# Altium integrated library Capacitors - Ceramic - 0201.IntLib: 1723 symbols (part 24 of 38)
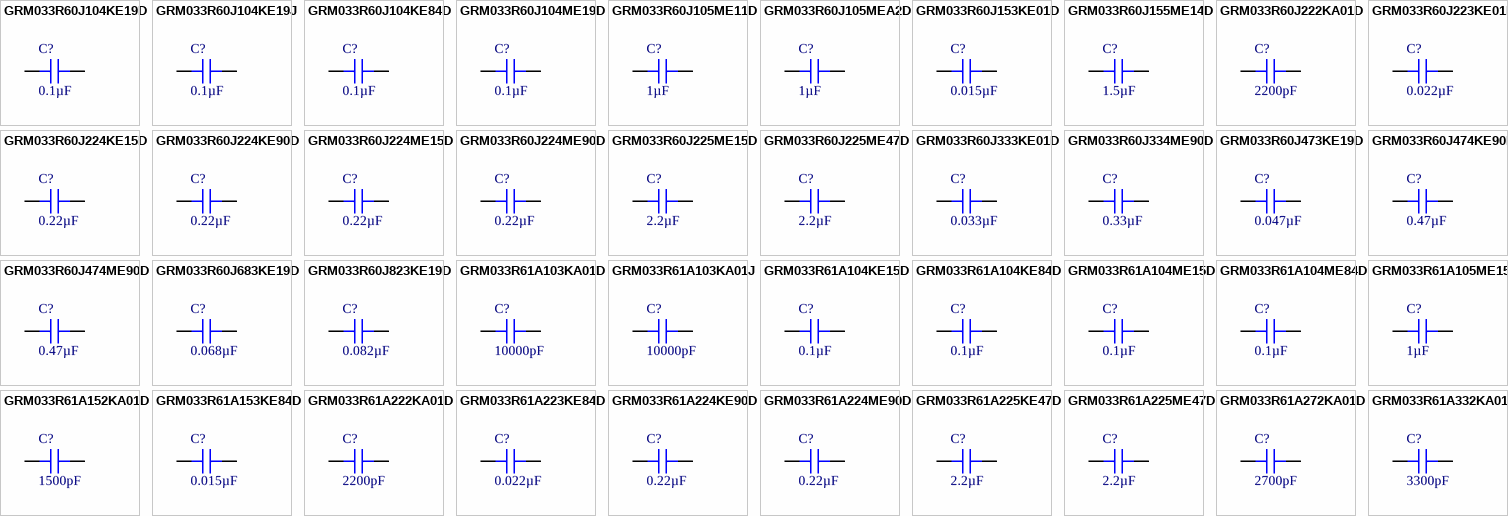
[diagram p66: symbols GRM033R60J104KE19D to GRM033R61A332KA01D]

## GRM033R60J105MEA2D
designator C?, comment 1µF
CAP CER 1UF 6.3V X5R 0201; Part Number: GRM033R60J105MEA2D; Manufacturer: Murata Electronics; Tolerance: ±20%; Value: 1µF; Applications: General Purpose; Capacitance: 1µF; ComponentLink1Description: Datasheet; ComponentLink1URL: https://www.murata.com/~/media/webrenewal/support/library/catalog/products/capacitor/mlcc/c02e.ashx?la=en-us; ComponentLink2Description: DigiKey Link; ComponentLink2URL: http://digikey.com/product-detail/en/murata-electronics/GRM033R60J105MEA2D/490-7229-1-ND/4213268; Device Package: 0201 (0603 Metric); LastUpdated: 9/2/2020 12:58:32 AM; Lifecycle Status: Active; Minimum Order: 1; Mounting Type: Surface Mount, MLCC; Operating Temperature: -55°C ~ 85°C; Package / Case: 0201 (0603 Metric); Packaging: TapeAndReel; PartId: 1258; Part Status: Active; Price: 0.01; Series: GRM; Size / Dimension: 0.024" L x 0.012" W (0.60mm x 0.30mm); Supplier 1: DigiKey; Supplier Part Number 1: 490-7229-1-ND; Temperature Coefficient: X5R; Thickness (Max): 0.013" (0.33mm); Voltage - Rated: 6.3V
footprint CAP 0201_0603
pins: 1, 2

## GRM033R60J153KE01D
designator C?, comment 0.015µF
CAP CER 0.015UF 6.3V X5R 0201; Part Number: GRM033R60J153KE01D; Manufacturer: Murata Electronics; Tolerance: ±10%; Value: 0.015µF; Applications: General Purpose; Capacitance: 0.015µF; ComponentLink1Description: Datasheet; ComponentLink1URL: https://www.murata.com/~/media/webrenewal/support/library/catalog/products/capacitor/mlcc/c02e.ashx?la=en-us; ComponentLink2Description: DigiKey Link; ComponentLink2URL: http://digikey.com/product-detail/en/murata-electronics/GRM033R60J153KE01D/490-3168-1-ND/702709; Device Package: 0201 (0603 Metric); LastUpdated: 9/2/2020 12:59:16 AM; Lifecycle Status: Active; Minimum Order: 1; Mounting Type: Surface Mount, MLCC; Operating Temperature: -55°C ~ 85°C; Package / Case: 0201 (0603 Metric); Packaging: TapeAndReel; PartId: 742; Part Status: Active; Price: 0.01; Series: GRM; Size / Dimension: 0.024" L x 0.012" W (0.60mm x 0.30mm); Supplier 1: DigiKey; Supplier Part Number 1: 490-3168-1-ND; Temperature Coefficient: X5R; Thickness (Max): 0.013" (0.33mm); Voltage - Rated: 6.3V
footprint CAP 0201_0603
pins: 1, 2

## GRM033R60J155ME14D
designator C?, comment 1.5µF
CAP CER 1.5UF 6.3V X5R 0201; Part Number: GRM033R60J155ME14D; Manufacturer: Murata Electronics; Tolerance: ±20%; Value: 1.5µF; Applications: General Purpose; Capacitance: 1.5µF; ComponentLink1Description: Datasheet; ComponentLink1URL: https://www.murata.com/~/media/webrenewal/support/library/catalog/products/capacitor/mlcc/c02e.ashx?la=en-us; ComponentLink2Description: DigiKey Link; ComponentLink2URL: http://digikey.com/product-detail/en/murata-electronics/GRM033R60J155ME14D/490-13223-1-ND/5877431; Device Package: 0201 (0603 Metric); LastUpdated: 9/2/2020 12:58:04 AM; Lifecycle Status: Active; Minimum Order: 1; Mounting Type: Surface Mount, MLCC; Operating Temperature: -55°C ~ 85°C; Package / Case: 0201 (0603 Metric); Packaging: TapeAndReel; PartId: 1561; Part Status: Active; Price: 0.05; Series: GRM; Size / Dimension: 0.024" L x 0.012" W (0.60mm x 0.30mm); Supplier 1: DigiKey; Supplier Part Number 1: 490-13223-1-ND; Temperature Coefficient: X5R; Thickness (Max): 0.013" (0.33mm); Voltage - Rated: 6.3V
footprint CAP 0201_0603
pins: 1, 2

## GRM033R60J222KA01D
designator C?, comment 2200pF
CAP CER 2200PF 6.3V X5R 0201; Part Number: GRM033R60J222KA01D; Manufacturer: Murata Electronics; Tolerance: ±10%; Value: 2200pF; Applications: General Purpose; Capacitance: 2200pF; ComponentLink1Description: Datasheet; ComponentLink1URL: https://search.murata.co.jp/Ceramy/image/img/A01X/G101/ENG/GRM033R60J222KA01-01.pdf; ComponentLink2Description: DigiKey Link; ComponentLink2URL: http://digikey.com/product-detail/en/murata-electronics/GRM033R60J222KA01D/490-17067-1-ND/7602066; Device Package: 0201 (0603 Metric); LastUpdated: 9/2/2020 1:00:13 AM; Lifecycle Status: Active; Minimum Order: 1; Mounting Type: Surface Mount, MLCC; Operating Temperature: -55°C ~ 85°C; Package / Case: 0201 (0603 Metric); Packaging: CutTape; PartId: 73; Part Status: Active; Price: 0.10; Series: GRM; Size / Dimension: 0.024" L x 0.012" W (0.60mm x 0.30mm); Supplier 1: DigiKey; Supplier Part Number 1: 490-17067-1-ND; Temperature Coefficient: X5R; Thickness (Max): 0.013" (0.33mm); Voltage - Rated: 6.3V
footprint CAP 0201_0603
pins: 1, 2

## GRM033R60J223KE01D
designator C?, comment 0.022µF
CAP CER 0.022UF 6.3V X5R 0201; Part Number: GRM033R60J223KE01D; Manufacturer: Murata Electronics; Tolerance: ±10%; Value: 0.022µF; Applications: General Purpose; Capacitance: 0.022µF; ComponentLink1Description: Datasheet; ComponentLink1URL: https://www.murata.com/~/media/webrenewal/support/library/catalog/products/capacitor/mlcc/c02e.ashx?la=en-us; ComponentLink2Description: DigiKey Link; ComponentLink2URL: http://digikey.com/product-detail/en/murata-electronics/GRM033R60J223KE01D/490-3169-1-ND/702710; Device Package: 0201 (0603 Metric); LastUpdated: 9/2/2020 12:59:16 AM; Lifecycle Status: Active; Minimum Order: 1; Mounting Type: Surface Mount, MLCC; Operating Temperature: -55°C ~ 85°C; Package / Case: 0201 (0603 Metric); Packaging: TapeAndReel; PartId: 739; Part Status: Active; Price: 0.01; Series: GRM; Size / Dimension: 0.024" L x 0.012" W (0.60mm x 0.30mm); Supplier 1: DigiKey; Supplier Part Number 1: 490-3169-1-ND; Temperature Coefficient: X5R; Thickness (Max): 0.013" (0.33mm); Voltage - Rated: 6.3V
footprint CAP 0201_0603
pins: 1, 2

## GRM033R60J224KE15D
designator C?, comment 0.22µF
CAP CER 0.22UF 6.3V X5R 0201; Part Number: GRM033R60J224KE15D; Manufacturer: Murata Electronics; Tolerance: ±10%; Value: 0.22µF; Applications: General Purpose; Capacitance: 0.22µF; ComponentLink1Description: Datasheet; ComponentLink1URL: https://search.murata.co.jp/Ceramy/image/img/A01X/G101/ENG/GRM033R60J224KE15-02.pdf; ComponentLink2Description: DigiKey Link; ComponentLink2URL: http://digikey.com/product-detail/en/murata-electronics/GRM033R60J224KE15D/490-10406-1-ND/5026283; Device Package: 0201 (0603 Metric); LastUpdated: 9/2/2020 12:59:46 AM; Lifecycle Status: Active; Minimum Order: 1; Mounting Type: Surface Mount, MLCC; Operating Temperature: -55°C ~ 85°C; Package / Case: 0201 (0603 Metric); Packaging: TapeAndReel; PartId: 389; Part Status: Active; Price: 0.01; Series: GRM; Size / Dimension: 0.024" L x 0.012" W (0.60mm x 0.30mm); Supplier 1: DigiKey; Supplier Part Number 1: 490-10406-1-ND; Temperature Coefficient: X5R; Thickness (Max): 0.013" (0.33mm); Voltage - Rated: 6.3V
footprint CAP 0201_0603
pins: 1, 2

## GRM033R60J224KE90D
designator C?, comment 0.22µF
CAP CER 0.22UF 6.3V X5R 0201; Part Number: GRM033R60J224KE90D; Manufacturer: Murata Electronics; Tolerance: ±10%; Value: 0.22µF; Applications: General Purpose; Capacitance: 0.22µF; ComponentLink1Description: Datasheet; ComponentLink1URL: https://www.murata.com/~/media/webrenewal/support/library/catalog/products/capacitor/mlcc/c02e.ashx?la=en-us; ComponentLink2Description: DigiKey Link; ComponentLink2URL: http://digikey.com/product-detail/en/murata-electronics/GRM033R60J224KE90D/490-17070-1-ND/7602069; Device Package: 0201 (0603 Metric); LastUpdated: 9/2/2020 12:57:58 AM; Lifecycle Status: Active; Minimum Order: 1; Mounting Type: Surface Mount, MLCC; Operating Temperature: -55°C ~ 85°C; Package / Case: 0201 (0603 Metric); Packaging: TapeAndReel; PartId: 1633; Part Status: Active; Price: 0.01; Series: GRM; Size / Dimension: 0.024" L x 0.012" W (0.60mm x 0.30mm); Supplier 1: DigiKey; Supplier Part Number 1: 490-17070-1-ND; Temperature Coefficient: X5R; Thickness (Max): 0.013" (0.33mm); Voltage - Rated: 6.3V
footprint CAP 0201_0603
pins: 1, 2

## GRM033R60J224ME15D
designator C?, comment 0.22µF
CAP CER 0.22UF 6.3V X5R 0201; Part Number: GRM033R60J224ME15D; Manufacturer: Murata Electronics; Tolerance: ±20%; Value: 0.22µF; Applications: General Purpose; Capacitance: 0.22µF; ComponentLink1Description: Datasheet; ComponentLink1URL: https://search.murata.co.jp/Ceramy/image/img/A01X/G101/ENG/GRM033R60J224ME15-01.pdf; ComponentLink2Description: DigiKey Link; ComponentLink2URL: http://digikey.com/product-detail/en/murata-electronics/GRM033R60J224ME15D/490-10407-1-ND/5026284; Device Package: 0201 (0603 Metric); LastUpdated: 9/2/2020 12:59:46 AM; Lifecycle Status: Active; Minimum Order: 1; Mounting Type: Surface Mount, MLCC; Operating Temperature: -55°C ~ 85°C; Package / Case: 0201 (0603 Metric); Packaging: CutTape; PartId: 390; Part Status: Active; Price: 0.10; Series: GRM; Size / Dimension: 0.024" L x 0.012" W (0.60mm x 0.30mm); Supplier 1: DigiKey; Supplier Part Number 1: 490-10407-1-ND; Temperature Coefficient: X5R; Thickness (Max): 0.013" (0.33mm); Voltage - Rated: 6.3V
footprint CAP 0201_0603
pins: 1, 2

## GRM033R60J224ME90D
designator C?, comment 0.22µF
CAP CER 0.22UF 6.3V X5R 0201; Part Number: GRM033R60J224ME90D; Manufacturer: Murata Electronics; Tolerance: ±20%; Value: 0.22µF; Applications: General Purpose; Capacitance: 0.22µF; ComponentLink1Description: Datasheet; ComponentLink1URL: https://search.murata.co.jp/Ceramy/image/img/A01X/G101/ENG/GRM033R60J224ME90-01.pdf; ComponentLink2Description: DigiKey Link; ComponentLink2URL: http://digikey.com/product-detail/en/murata-electronics/GRM033R60J224ME90D/490-11973-1-ND/5403174; Device Package: 0201 (0603 Metric); LastUpdated: 9/2/2020 12:58:16 AM; Lifecycle Status: Active; Minimum Order: 1; Mounting Type: Surface Mount, MLCC; Operating Temperature: -55°C ~ 85°C; Package / Case: 0201 (0603 Metric); Packaging: TapeAndReel; PartId: 1427; Part Status: Active; Price: 0.01; Series: GRM; Size / Dimension: 0.024" L x 0.012" W (0.60mm x 0.30mm); Supplier 1: DigiKey; Supplier Part Number 1: 490-11973-1-ND; Temperature Coefficient: X5R; Thickness (Max): 0.013" (0.33mm); Voltage - Rated: 6.3V
footprint CAP 0201_0603
pins: 1, 2

## GRM033R60J225ME15D
designator C?, comment 2.2µF
CAP CER 2.2UF 6.3V X5R 0201; Part Number: GRM033R60J225ME15D; Manufacturer: Murata Electronics; Tolerance: ±20%; Value: 2.2µF; Applications: General Purpose; Capacitance: 2.2µF; ComponentLink1Description: Datasheet; ComponentLink1URL: https://www.murata.com/~/media/webrenewal/support/library/catalog/products/capacitor/mlcc/c02e.ashx?la=en-us; ComponentLink2Description: DigiKey Link; ComponentLink2URL: http://digikey.com/product-detail/en/murata-electronics/GRM033R60J225ME15D/490-13224-1-ND/5877432; Device Package: 0201 (0603 Metric); LastUpdated: 9/2/2020 12:59:44 AM; Lifecycle Status: Active; Minimum Order: 1; Mounting Type: Surface Mount, MLCC; Operating Temperature: -55°C ~ 85°C; Package / Case: 0201 (0603 Metric); Packaging: TapeAndReel; PartId: 411; Part Status: Active; Price: 0.04; Series: GRM; Size / Dimension: 0.024" L x 0.012" W (0.60mm x 0.30mm); Supplier 1: DigiKey; Supplier Part Number 1: 490-13224-1-ND; Temperature Coefficient: X5R; Thickness (Max): 0.014" (0.35mm); Voltage - Rated: 6.3V
footprint CAP 0201_0603
pins: 1, 2

## GRM033R60J225ME47D
designator C?, comment 2.2µF
CAP CER 2.2UF 6.3V X5R 0201; Part Number: GRM033R60J225ME47D; Manufacturer: Murata Electronics; Tolerance: ±20%; Value: 2.2µF; Applications: General Purpose; Capacitance: 2.2µF; ComponentLink1Description: Datasheet; ComponentLink1URL: https://www.murata.com/~/media/webrenewal/support/library/catalog/products/capacitor/mlcc/c02e.ashx?la=en-us; ComponentLink2Description: DigiKey Link; ComponentLink2URL: http://digikey.com/product-detail/en/murata-electronics/GRM033R60J225ME47D/490-13225-1-ND/5877433; Device Package: 0201 (0603 Metric); LastUpdated: 9/2/2020 12:58:25 AM; Lifecycle Status: Active; Minimum Order: 1; Mounting Type: Surface Mount, MLCC; Operating Temperature: -55°C ~ 85°C; Package / Case: 0201 (0603 Metric); Packaging: TapeAndReel; PartId: 1333; Part Status: Active; Price: 0.03; Series: GRM; Size / Dimension: 0.024" L x 0.012" W (0.60mm x 0.30mm); Supplier 1: DigiKey; Supplier Part Number 1: 490-13225-1-ND; Temperature Coefficient: X5R; Thickness (Max): 0.015" (0.39mm); Voltage - Rated: 6.3V
footprint CAP 0201_0603
pins: 1, 2

## GRM033R60J333KE01D
designator C?, comment 0.033µF
CAP CER 0.033UF 6.3V X5R 0201; Part Number: GRM033R60J333KE01D; Manufacturer: Murata Electronics; Tolerance: ±10%; Value: 0.033µF; Applications: General Purpose; Capacitance: 0.033µF; ComponentLink1Description: Datasheet; ComponentLink1URL: https://www.murata.com/~/media/webrenewal/support/library/catalog/products/capacitor/mlcc/c02e.ashx?la=en-us; ComponentLink2Description: DigiKey Link; ComponentLink2URL: http://digikey.com/product-detail/en/murata-electronics/GRM033R60J333KE01D/490-3170-1-ND/702711; Device Package: 0201 (0603 Metric); LastUpdated: 9/2/2020 12:59:16 AM; Lifecycle Status: Active; Minimum Order: 1; Mounting Type: Surface Mount, MLCC; Operating Temperature: -55°C ~ 85°C; Package / Case: 0201 (0603 Metric); Packaging: TapeAndReel; PartId: 740; Part Status: Active; Price: 0.01; Series: GRM; Size / Dimension: 0.024" L x 0.012" W (0.60mm x 0.30mm); Supplier 1: DigiKey; Supplier Part Number 1: 490-3170-1-ND; Temperature Coefficient: X5R; Thickness (Max): 0.013" (0.33mm); Voltage - Rated: 6.3V
footprint CAP 0201_0603
pins: 1, 2

## GRM033R60J334ME90D
designator C?, comment 0.33µF
CAP CER 0.33UF 6.3V X5R 0201; Part Number: GRM033R60J334ME90D; Manufacturer: Murata Electronics; Tolerance: ±20%; Value: 0.33µF; Applications: General Purpose; Capacitance: 0.33µF; ComponentLink1Description: Datasheet; ComponentLink1URL: https://search.murata.co.jp/Ceramy/image/img/A01X/G101/ENG/GRM033R60J334ME90-01.pdf; ComponentLink2Description: DigiKey Link; ComponentLink2URL: http://digikey.com/product-detail/en/murata-electronics/GRM033R60J334ME90D/490-10408-1-ND/5026285; Device Package: 0201 (0603 Metric); LastUpdated: 9/2/2020 12:58:46 AM; Lifecycle Status: Active; Minimum Order: 1; Mounting Type: Surface Mount, MLCC; Operating Temperature: -55°C ~ 85°C; Package / Case: 0201 (0603 Metric); Packaging: TapeAndReel; PartId: 1094; Part Status: Active; Price: 0.02; Series: GRM; Size / Dimension: 0.024" L x 0.012" W (0.60mm x 0.30mm); Supplier 1: DigiKey; Supplier Part Number 1: 490-10408-1-ND; Temperature Coefficient: X5R; Thickness (Max): 0.013" (0.33mm); Voltage - Rated: 6.3V
footprint CAP 0201_0603
pins: 1, 2

## GRM033R60J473KE19D
designator C?, comment 0.047µF
CAP CER 0.047UF 6.3V X5R 0201; Part Number: GRM033R60J473KE19D; Manufacturer: Murata Electronics; Tolerance: ±10%; Value: 0.047µF; Applications: General Purpose; Capacitance: 0.047µF; ComponentLink1Description: Datasheet; ComponentLink1URL: https://www.murata.com/~/media/webrenewal/support/library/catalog/products/capacitor/mlcc/c02e.ashx?la=en-us; ComponentLink2Description: DigiKey Link; ComponentLink2URL: http://digikey.com/product-detail/en/murata-electronics/GRM033R60J473KE19D/490-6140-1-ND/3845340; Device Package: 0201 (0603 Metric); LastUpdated: 9/2/2020 12:59:16 AM; Lifecycle Status: Active; Minimum Order: 1; Mounting Type: Surface Mount, MLCC; Operating Temperature: -55°C ~ 85°C; Package / Case: 0201 (0603 Metric); Packaging: TapeAndReel; PartId: 741; Part Status: Active; Price: 0.01; Series: GRM; Size / Dimension: 0.024" L x 0.012" W (0.60mm x 0.30mm); Supplier 1: DigiKey; Supplier Part Number 1: 490-6140-1-ND; Temperature Coefficient: X5R; Thickness (Max): 0.013" (0.33mm); Voltage - Rated: 6.3V
footprint CAP 0201_0603
pins: 1, 2

## GRM033R60J474KE90D
designator C?, comment 0.47µF
CAP CER 0.47UF 6.3V X5R 0201; Part Number: GRM033R60J474KE90D; Manufacturer: Murata Electronics; Tolerance: ±10%; Value: 0.47µF; Applications: General Purpose; Capacitance: 0.47µF; ComponentLink1Description: Datasheet; ComponentLink1URL: https://search.murata.co.jp/Ceramy/image/img/A01X/G101/ENG/GRM033R60J474KE90-01.pdf; ComponentLink2Description: DigiKey Link; ComponentLink2URL: http://digikey.com/product-detail/en/murata-electronics/GRM033R60J474KE90D/490-10409-1-ND/5026286; Device Package: 0201 (0603 Metric); LastUpdated: 9/2/2020 12:58:46 AM; Lifecycle Status: Active; Minimum Order: 1; Mounting Type: Surface Mount, MLCC; Operating Temperature: -55°C ~ 85°C; Package / Case: 0201 (0603 Metric); Packaging: TapeAndReel; PartId: 1093; Part Status: Active; Price: 0.02; Series: GRM; Size / Dimension: 0.024" L x 0.012" W (0.60mm x 0.30mm); Supplier 1: DigiKey; Supplier Part Number 1: 490-10409-1-ND; Temperature Coefficient: X5R; Thickness (Max): 0.013" (0.33mm); Voltage - Rated: 6.3V
footprint CAP 0201_0603
pins: 1, 2

## GRM033R60J474ME90D
designator C?, comment 0.47µF
CAP CER 0.47UF 6.3V X5R 0201; Part Number: GRM033R60J474ME90D; Manufacturer: Murata Electronics; Tolerance: ±20%; Value: 0.47µF; Applications: General Purpose; Capacitance: 0.47µF; ComponentLink1Description: Datasheet; ComponentLink1URL: https://search.murata.co.jp/Ceramy/image/img/A01X/G101/ENG/GRM033R60J474ME90-01.pdf; ComponentLink2Description: DigiKey Link; ComponentLink2URL: http://digikey.com/product-detail/en/murata-electronics/GRM033R60J474ME90D/490-10410-1-ND/5026287; Device Package: 0201 (0603 Metric); LastUpdated: 9/2/2020 12:59:19 AM; Lifecycle Status: Active; Minimum Order: 1; Mounting Type: Surface Mount, MLCC; Operating Temperature: -55°C ~ 85°C; Package / Case: 0201 (0603 Metric); Packaging: TapeAndReel; PartId: 705; Part Status: Active; Price: 0.02; Series: GRM; Size / Dimension: 0.024" L x 0.012" W (0.60mm x 0.30mm); Supplier 1: DigiKey; Supplier Part Number 1: 490-10410-1-ND; Temperature Coefficient: X5R; Thickness (Max): 0.013" (0.33mm); Voltage - Rated: 6.3V
footprint CAP 0201_0603
pins: 1, 2

## GRM033R60J683KE19D
designator C?, comment 0.068µF
CAP CER 0.068UF 6.3V X5R 0201; Part Number: GRM033R60J683KE19D; Manufacturer: Murata Electronics; Tolerance: ±10%; Value: 0.068µF; Applications: General Purpose; Capacitance: 0.068µF; ComponentLink1Description: Datasheet; ComponentLink1URL: https://www.murata.com/~/media/webrenewal/support/library/catalog/products/capacitor/mlcc/c02e.ashx?la=en-us; ComponentLink2Description: DigiKey Link; ComponentLink2URL: http://digikey.com/product-detail/en/murata-electronics/GRM033R60J683KE19D/490-3171-1-ND/702712; Device Package: 0201 (0603 Metric); LastUpdated: 9/2/2020 12:57:56 AM; Lifecycle Status: Active; Minimum Order: 1; Mounting Type: Surface Mount, MLCC; Operating Temperature: -55°C ~ 85°C; Package / Case: 0201 (0603 Metric); Packaging: TapeAndReel; PartId: 1649; Part Status: Active; Price: 0.01; Series: GRM; Size / Dimension: 0.024" L x 0.012" W (0.60mm x 0.30mm); Supplier 1: DigiKey; Supplier Part Number 1: 490-3171-1-ND; Temperature Coefficient: X5R; Thickness (Max): 0.013" (0.33mm); Voltage - Rated: 6.3V
footprint CAP 0201_0603
pins: 1, 2

## GRM033R60J823KE19D
designator C?, comment 0.082µF
CAP CER 0.082UF 6.3V X5R 0201; Part Number: GRM033R60J823KE19D; Manufacturer: Murata Electronics; Tolerance: ±10%; Value: 0.082µF; Applications: General Purpose; Capacitance: 0.082µF; ComponentLink1Description: Datasheet; ComponentLink1URL: https://www.murata.com/~/media/webrenewal/support/library/catalog/products/capacitor/mlcc/c02e.ashx?la=en-us; ComponentLink2Description: DigiKey Link; ComponentLink2URL: http://digikey.com/product-detail/en/murata-electronics/GRM033R60J823KE19D/490-11353-1-ND/5333193; Device Package: 0201 (0603 Metric); LastUpdated: 9/2/2020 1:00:14 AM; Lifecycle Status: Active; Minimum Order: 1; Mounting Type: Surface Mount, MLCC; Operating Temperature: -55°C ~ 85°C; Package / Case: 0201 (0603 Metric); Packaging: TapeAndReel; PartId: 60; Part Status: Active; Price: 0.01; Series: GRM; Size / Dimension: 0.024" L x 0.012" W (0.60mm x 0.30mm); Supplier 1: DigiKey; Supplier Part Number 1: 490-11353-1-ND; Temperature Coefficient: X5R; Thickness (Max): 0.013" (0.33mm); Voltage - Rated: 6.3V
footprint CAP 0201_0603
pins: 1, 2

## GRM033R61A103KA01D
designator C?, comment 10000pF
CAP CER 10000PF 10V X5R 0201; Part Number: GRM033R61A103KA01D; Manufacturer: Murata Electronics; Tolerance: ±10%; Value: 10000pF; Applications: General Purpose; Capacitance: 10000pF; ComponentLink1Description: Datasheet; ComponentLink1URL: https://www.murata.com/~/media/webrenewal/support/library/catalog/products/capacitor/mlcc/c02e.ashx?la=en-us; ComponentLink2Description: DigiKey Link; ComponentLink2URL: http://digikey.com/product-detail/en/murata-electronics/GRM033R61A103KA01D/490-3166-1-ND/702707; Device Package: 0201 (0603 Metric); LastUpdated: 9/2/2020 12:59:28 AM; Lifecycle Status: Active; Minimum Order: 1; Mounting Type: Surface Mount, MLCC; Operating Temperature: -55°C ~ 85°C; Package / Case: 0201 (0603 Metric); Packaging: CutTape; PartId: 601; Part Status: Active; Price: 0.10; Series: GRM; Size / Dimension: 0.024" L x 0.012" W (0.60mm x 0.30mm); Supplier 1: DigiKey; Supplier Part Number 1: 490-3166-1-ND; Temperature Coefficient: X5R; Thickness (Max): 0.013" (0.33mm); Voltage - Rated: 10V
footprint CAP 0201_0603
pins: 1, 2

## GRM033R61A103KA01J
designator C?, comment 10000pF
CAP CER 10000PF 10V X5R 0201; Part Number: GRM033R61A103KA01J; Manufacturer: Murata Electronics; Tolerance: ±10%; Value: 10000pF; Applications: General Purpose; Capacitance: 10000pF; ComponentLink1Description: Datasheet; ComponentLink1URL: https://www.murata.com/~/media/webrenewal/support/library/catalog/products/capacitor/mlcc/c02e.ashx?la=en-us; ComponentLink2Description: DigiKey Link; ComponentLink2URL: http://digikey.com/product-detail/en/murata-electronics/GRM033R61A103KA01J/490-8156-1-ND/4380449; Device Package: 0201 (0603 Metric); LastUpdated: 9/2/2020 12:59:31 AM; Lifecycle Status: Active; Minimum Order: 1; Mounting Type: Surface Mount, MLCC; Operating Temperature: -55°C ~ 85°C; Package / Case: 0201 (0603 Metric); Packaging: CutTape; PartId: 566; Part Status: Active; Price: 0.10; Series: GRM; Size / Dimension: 0.024" L x 0.012" W (0.60mm x 0.30mm); Supplier 1: DigiKey; Supplier Part Number 1: 490-8156-1-ND; Temperature Coefficient: X5R; Thickness (Max): 0.013" (0.33mm); Voltage - Rated: 10V
footprint CAP 0201_0603
pins: 1, 2

## GRM033R61A104KE15D
designator C?, comment 0.1µF
CAP CER 0.1UF 10V X5R 0201; Part Number: GRM033R61A104KE15D; Manufacturer: Murata Electronics; Tolerance: ±10%; Value: 0.1µF; Applications: General Purpose; Capacitance: 0.1µF; ComponentLink1Description: Datasheet; ComponentLink1URL: https://www.murata.com/~/media/webrenewal/support/library/catalog/products/capacitor/mlcc/c02e.ashx?la=en-us; ComponentLink2Description: DigiKey Link; ComponentLink2URL: http://digikey.com/product-detail/en/murata-electronics/GRM033R61A104KE15D/490-5881-1-ND/2674192; Device Package: 0201 (0603 Metric); LastUpdated: 9/2/2020 12:57:57 AM; Lifecycle Status: Active; Minimum Order: 1; Mounting Type: Surface Mount, MLCC; Operating Temperature: -55°C ~ 85°C; Package / Case: 0201 (0603 Metric); Packaging: CutTape; PartId: 1641; Part Status: Active; Price: 0.10; Series: GRM; Size / Dimension: 0.024" L x 0.012" W (0.60mm x 0.30mm); Supplier 1: DigiKey; Supplier Part Number 1: 490-5881-1-ND; Temperature Coefficient: X5R; Thickness (Max): 0.013" (0.33mm); Voltage - Rated: 10V
footprint CAP 0201_0603
pins: 1, 2

## GRM033R61A104KE84D
designator C?, comment 0.1µF
CAP CER 0.1UF 10V X5R 0201; Part Number: GRM033R61A104KE84D; Manufacturer: Murata Electronics; Tolerance: ±10%; Value: 0.1µF; Applications: General Purpose; Capacitance: 0.1µF; ComponentLink1Description: Datasheet; ComponentLink1URL: https://search.murata.co.jp/Ceramy/image/img/A01X/G101/ENG/GRM033R61A104KE84-01.pdf; ComponentLink2Description: DigiKey Link; ComponentLink2URL: http://digikey.com/product-detail/en/murata-electronics/GRM033R61A104KE84D/490-10681-1-ND/5251424; Device Package: 0201 (0603 Metric); LastUpdated: 9/2/2020 1:00:17 AM; Lifecycle Status: Active; Minimum Order: 1; Mounting Type: Surface Mount, MLCC; Operating Temperature: -55°C ~ 85°C; Package / Case: 0201 (0603 Metric); Packaging: TapeAndReel; PartId: 27; Part Status: Active; Price: 0.01; Series: GRM; Size / Dimension: 0.024" L x 0.012" W (0.60mm x 0.30mm); Supplier 1: DigiKey; Supplier Part Number 1: 490-10681-1-ND; Temperature Coefficient: X5R; Thickness (Max): 0.013" (0.33mm); Voltage - Rated: 10V
footprint CAP 0201_0603
pins: 1, 2

## GRM033R61A104ME15D
designator C?, comment 0.1µF
CAP CER 0.1UF 10V X5R 0201; Part Number: GRM033R61A104ME15D; Manufacturer: Murata Electronics; Tolerance: ±20%; Value: 0.1µF; Applications: General Purpose; Capacitance: 0.1µF; ComponentLink1Description: Datasheet; ComponentLink1URL: https://www.murata.com/~/media/webrenewal/support/library/catalog/products/capacitor/mlcc/c02e.ashx?la=en-us; ComponentLink2Description: DigiKey Link; ComponentLink2URL: http://digikey.com/product-detail/en/murata-electronics/GRM033R61A104ME15D/490-5405-1-ND/2175212; Device Package: 0201 (0603 Metric); LastUpdated: 9/2/2020 12:58:57 AM; Lifecycle Status: Active; Minimum Order: 1; Mounting Type: Surface Mount, MLCC; Operating Temperature: -55°C ~ 85°C; Package / Case: 0201 (0603 Metric); Packaging: CutTape; PartId: 955; Part Status: Active; Price: 0.10; Series: GRM; Size / Dimension: 0.024" L x 0.012" W (0.60mm x 0.30mm); Supplier 1: DigiKey; Supplier Part Number 1: 490-5405-1-ND; Temperature Coefficient: X5R; Thickness (Max): 0.013" (0.33mm); Voltage - Rated: 10V
footprint CAP 0201_0603
pins: 1, 2

## GRM033R61A104ME84D
designator C?, comment 0.1µF
CAP CER 0.1UF 10V X5R 0201; Part Number: GRM033R61A104ME84D; Manufacturer: Murata Electronics; Tolerance: ±20%; Value: 0.1µF; Applications: General Purpose; Capacitance: 0.1µF; ComponentLink1Description: Datasheet; ComponentLink1URL: https://search.murata.co.jp/Ceramy/image/img/A01X/G101/ENG/GRM033R61A104ME84-01.pdf; ComponentLink2Description: DigiKey Link; ComponentLink2URL: http://digikey.com/product-detail/en/murata-electronics/GRM033R61A104ME84D/490-16738-1-ND/7595646; Device Package: 0201 (0603 Metric); LastUpdated: 9/2/2020 12:59:14 AM; Lifecycle Status: Active; Minimum Order: 1; Mounting Type: Surface Mount, MLCC; Operating Temperature: -55°C ~ 85°C; Package / Case: 0201 (0603 Metric); Packaging: TapeAndReel; PartId: 761; Part Status: Active; Price: 0.01; Series: GRM; Size / Dimension: 0.024" L x 0.012" W (0.60mm x 0.30mm); Supplier 1: DigiKey; Supplier Part Number 1: 490-16738-1-ND; Temperature Coefficient: X5R; Thickness (Max): 0.013" (0.33mm); Voltage - Rated: 10V
footprint CAP 0201_0603
pins: 1, 2

## GRM033R61A105ME15D
designator C?, comment 1µF
CAP CER 1UF 10V X5R 0201; Part Number: GRM033R61A105ME15D; Manufacturer: Murata Electronics; Tolerance: ±20%; Value: 1µF; Applications: General Purpose; Capacitance: 1µF; ComponentLink1Description: Datasheet; ComponentLink1URL: https://www.murata.com/~/media/webrenewal/support/library/catalog/products/capacitor/mlcc/c02e.ashx?la=en-us; ComponentLink2Description: DigiKey Link; ComponentLink2URL: http://digikey.com/product-detail/en/murata-electronics/GRM033R61A105ME15D/490-13226-1-ND/5877434; Device Package: 0201 (0603 Metric); LastUpdated: 9/2/2020 1:00:12 AM; Lifecycle Status: Active; Minimum Order: 1; Mounting Type: Surface Mount, MLCC; Operating Temperature: -55°C ~ 85°C; Package / Case: 0201 (0603 Metric); Packaging: TapeAndReel; PartId: 90; Part Status: Active; Price: 0.07; Series: GRM; Size / Dimension: 0.024" L x 0.012" W (0.60mm x 0.30mm); Supplier 1: DigiKey; Supplier Part Number 1: 490-13226-1-ND; Temperature Coefficient: X5R; Thickness (Max): 0.015" (0.39mm); Voltage - Rated: 10V
footprint CAP 0201_0603
pins: 1, 2

## GRM033R61A152KA01D
designator C?, comment 1500pF
CAP CER 1500PF 10V X5R 0201; Part Number: GRM033R61A152KA01D; Manufacturer: Murata Electronics; Tolerance: ±10%; Value: 1500pF; Applications: General Purpose; Capacitance: 1500pF; ComponentLink1Description: Datasheet; ComponentLink1URL: https://www.murata.com/~/media/webrenewal/support/library/catalog/products/capacitor/mlcc/c02e.ashx?la=en-us; ComponentLink2Description: DigiKey Link; ComponentLink2URL: http://digikey.com/product-detail/en/murata-electronics/GRM033R61A152KA01D/490-3161-1-ND/702702; Device Package: 0201 (0603 Metric); LastUpdated: 9/2/2020 12:59:26 AM; Lifecycle Status: Active; Minimum Order: 1; Mounting Type: Surface Mount, MLCC; Operating Temperature: -55°C ~ 85°C; Package / Case: 0201 (0603 Metric); Packaging: CutTape; PartId: 623; Part Status: Active; Price: 0.10; Series: GRM; Size / Dimension: 0.024" L x 0.012" W (0.60mm x 0.30mm); Supplier 1: DigiKey; Supplier Part Number 1: 490-3161-1-ND; Temperature Coefficient: X5R; Thickness (Max): 0.013" (0.33mm); Voltage - Rated: 10V
footprint CAP 0201_0603
pins: 1, 2

## GRM033R61A153KE84D
designator C?, comment 0.015µF
CAP CER 0.015UF 10V X5R 0201; Part Number: GRM033R61A153KE84D; Manufacturer: Murata Electronics; Tolerance: ±10%; Value: 0.015µF; Applications: General Purpose; Capacitance: 0.015µF; ComponentLink1Description: Datasheet; ComponentLink1URL: https://search.murata.co.jp/Ceramy/image/img/A01X/G101/ENG/GRM033R61A153KE84-01.pdf; ComponentLink2Description: DigiKey Link; ComponentLink2URL: http://digikey.com/product-detail/en/murata-electronics/GRM033R61A153KE84D/490-17049-1-ND/7602048; Device Package: 0201 (0603 Metric); LastUpdated: 9/2/2020 12:59:14 AM; Lifecycle Status: Active; Minimum Order: 1; Mounting Type: Surface Mount, MLCC; Operating Temperature: -55°C ~ 85°C; Package / Case: 0201 (0603 Metric); Packaging: TapeAndReel; PartId: 762; Part Status: Active; Price: 0.01; Series: GRM; Size / Dimension: 0.024" L x 0.012" W (0.60mm x 0.30mm); Supplier 1: DigiKey; Supplier Part Number 1: 490-17049-1-ND; Temperature Coefficient: X5R; Thickness (Max): 0.013" (0.33mm); Voltage - Rated: 10V
footprint CAP 0201_0603
pins: 1, 2

## GRM033R61A222KA01D
designator C?, comment 2200pF
CAP CER 2200PF 10V X5R 0201; Part Number: GRM033R61A222KA01D; Manufacturer: Murata Electronics; Tolerance: ±10%; Value: 2200pF; Applications: General Purpose; Capacitance: 2200pF; ComponentLink1Description: Datasheet; ComponentLink1URL: https://www.murata.com/~/media/webrenewal/support/library/catalog/products/capacitor/mlcc/c02e.ashx?la=en-us; ComponentLink2Description: DigiKey Link; ComponentLink2URL: http://digikey.com/product-detail/en/murata-electronics/GRM033R61A222KA01D/490-3162-1-ND/702703; Device Package: 0201 (0603 Metric); LastUpdated: 9/2/2020 12:59:18 AM; Lifecycle Status: Active; Minimum Order: 1; Mounting Type: Surface Mount, MLCC; Operating Temperature: -55°C ~ 85°C; Package / Case: 0201 (0603 Metric); Packaging: CutTape; PartId: 716; Part Status: Active; Price: 0.10; Series: GRM; Size / Dimension: 0.024" L x 0.012" W (0.60mm x 0.30mm); Supplier 1: DigiKey; Supplier Part Number 1: 490-3162-1-ND; Temperature Coefficient: X5R; Thickness (Max): 0.013" (0.33mm); Voltage - Rated: 10V
footprint CAP 0201_0603
pins: 1, 2

## GRM033R61A223KE84D
designator C?, comment 0.022µF
CAP CER 0.022UF 10V X5R 0201; Part Number: GRM033R61A223KE84D; Manufacturer: Murata Electronics; Tolerance: ±10%; Value: 0.022µF; Applications: General Purpose; Capacitance: 0.022µF; ComponentLink1Description: Datasheet; ComponentLink1URL: https://search.murata.co.jp/Ceramy/image/img/A01X/G101/ENG/GRM033R61A223KE84-01.pdf; ComponentLink2Description: DigiKey Link; ComponentLink2URL: http://digikey.com/product-detail/en/murata-electronics/GRM033R61A223KE84D/490-13334-1-ND/5973346; Device Package: 0201 (0603 Metric); LastUpdated: 9/2/2020 12:59:15 AM; Lifecycle Status: Active; Minimum Order: 1; Mounting Type: Surface Mount, MLCC; Operating Temperature: -55°C ~ 85°C; Package / Case: 0201 (0603 Metric); Packaging: TapeAndReel; PartId: 753; Part Status: Active; Price: 0.01; Series: GRM; Size / Dimension: 0.024" L x 0.012" W (0.60mm x 0.30mm); Supplier 1: DigiKey; Supplier Part Number 1: 490-13334-1-ND; Temperature Coefficient: X5R; Thickness (Max): 0.013" (0.33mm); Voltage - Rated: 10V
footprint CAP 0201_0603
pins: 1, 2

## GRM033R61A224KE90D
designator C?, comment 0.22µF
CAP CER 0.22UF 10V X5R 0201; Part Number: GRM033R61A224KE90D; Manufacturer: Murata Electronics; Tolerance: ±10%; Value: 0.22µF; Applications: General Purpose; Capacitance: 0.22µF; ComponentLink1Description: Datasheet; ComponentLink1URL: https://search.murata.co.jp/Ceramy/image/img/A01X/G101/ENG/GRM033R61A224KE90-01.pdf; ComponentLink2Description: DigiKey Link; ComponentLink2URL: http://digikey.com/product-detail/en/murata-electronics/GRM033R61A224KE90D/490-10411-1-ND/5026288; Device Package: 0201 (0603 Metric); LastUpdated: 9/2/2020 12:57:57 AM; Lifecycle Status: Active; Minimum Order: 1; Mounting Type: Surface Mount, MLCC; Operating Temperature: -55°C ~ 85°C; Package / Case: 0201 (0603 Metric); Packaging: TapeAndReel; PartId: 1634; Part Status: Active; Price: 0.01; Series: GRM; Size / Dimension: 0.024" L x 0.012" W (0.60mm x 0.30mm); Supplier 1: DigiKey; Supplier Part Number 1: 490-10411-1-ND; Temperature Coefficient: X5R; Thickness (Max): 0.013" (0.33mm); Voltage - Rated: 10V
footprint CAP 0201_0603
pins: 1, 2

## GRM033R61A224ME90D
designator C?, comment 0.22µF
CAP CER 0.22UF 10V X5R 0201; Part Number: GRM033R61A224ME90D; Manufacturer: Murata Electronics; Tolerance: ±20%; Value: 0.22µF; Applications: General Purpose; Capacitance: 0.22µF; ComponentLink1Description: Datasheet; ComponentLink1URL: https://search.murata.co.jp/Ceramy/image/img/A01X/G101/ENG/GRM033R61A224ME90-01.pdf; ComponentLink2Description: DigiKey Link; ComponentLink2URL: http://digikey.com/product-detail/en/murata-electronics/GRM033R61A224ME90D/490-9984-1-ND/5026289; Device Package: 0201 (0603 Metric); LastUpdated: 9/2/2020 12:59:17 AM; Lifecycle Status: Active; Minimum Order: 1; Mounting Type: Surface Mount, MLCC; Operating Temperature: -55°C ~ 85°C; Package / Case: 0201 (0603 Metric); Packaging: TapeAndReel; PartId: 726; Part Status: Active; Price: 0.01; Series: GRM; Size / Dimension: 0.024" L x 0.012" W (0.60mm x 0.30mm); Supplier 1: DigiKey; Supplier Part Number 1: 490-9984-1-ND; Temperature Coefficient: X5R; Thickness (Max): 0.013" (0.33mm); Voltage - Rated: 10V
footprint CAP 0201_0603
pins: 1, 2

## GRM033R61A225KE47D
designator C?, comment 2.2µF
CAP CER 2.2UF 10V X5R 0201; Part Number: GRM033R61A225KE47D; Manufacturer: Murata Electronics; Tolerance: ±10%; Value: 2.2µF; Applications: General Purpose; Capacitance: 2.2µF; ComponentLink1Description: Datasheet; ComponentLink1URL: https://www.murata.com/~/media/webrenewal/support/library/catalog/products/capacitor/mlcc/c02e.ashx?la=en-us; ComponentLink2Description: DigiKey Link; ComponentLink2URL: http://digikey.com/product-detail/en/murata-electronics/GRM033R61A225KE47D/490-13227-1-ND/5877435; Device Package: 0201 (0603 Metric); LastUpdated: 9/2/2020 12:59:45 AM; Lifecycle Status: Active; Minimum Order: 1; Mounting Type: Surface Mount, MLCC; Operating Temperature: -55°C ~ 85°C; Package / Case: 0201 (0603 Metric); Packaging: TapeAndReel; PartId: 405; Part Status: Active; Price: 0.04; Series: GRM; Size / Dimension: 0.024" L x 0.012" W (0.60mm x 0.30mm); Supplier 1: DigiKey; Supplier Part Number 1: 490-13227-1-ND; Temperature Coefficient: X5R; Thickness (Max): 0.015" (0.39mm); Voltage - Rated: 10V
footprint CAP 0201_0603
pins: 1, 2

## GRM033R61A225ME47D
designator C?, comment 2.2µF
CAP CER 2.2UF 10V X5R 0201; Part Number: GRM033R61A225ME47D; Manufacturer: Murata Electronics; Tolerance: ±20%; Value: 2.2µF; Applications: General Purpose; Capacitance: 2.2µF; ComponentLink1Description: Datasheet; ComponentLink1URL: https://www.murata.com/~/media/webrenewal/support/library/catalog/products/capacitor/mlcc/c02e.ashx?la=en-us; ComponentLink2Description: DigiKey Link; ComponentLink2URL: http://digikey.com/product-detail/en/murata-electronics/GRM033R61A225ME47D/490-13228-1-ND/5877436; Device Package: 0201 (0603 Metric); LastUpdated: 9/2/2020 12:59:45 AM; Lifecycle Status: Active; Minimum Order: 1; Mounting Type: Surface Mount, MLCC; Operating Temperature: -55°C ~ 85°C; Package / Case: 0201 (0603 Metric); Packaging: TapeAndReel; PartId: 406; Part Status: Active; Price: 0.04; Series: GRM; Size / Dimension: 0.024" L x 0.012" W (0.60mm x 0.30mm); Supplier 1: DigiKey; Supplier Part Number 1: 490-13228-1-ND; Temperature Coefficient: X5R; Thickness (Max): 0.015" (0.39mm); Voltage - Rated: 10V
footprint CAP 0201_0603
pins: 1, 2

## GRM033R61A272KA01D
designator C?, comment 2700pF
CAP CER 2700PF 10V X5R 0201; Part Number: GRM033R61A272KA01D; Manufacturer: Murata Electronics; Tolerance: ±10%; Value: 2700pF; Applications: General Purpose; Capacitance: 2700pF; ComponentLink1Description: Datasheet; ComponentLink1URL: https://www.murata.com/~/media/webrenewal/support/library/catalog/products/capacitor/mlcc/c02e.ashx?la=en-us; ComponentLink2Description: DigiKey Link; ComponentLink2URL: http://digikey.com/product-detail/en/murata-electronics/GRM033R61A272KA01D/490-6141-1-ND/3845341; Device Package: 0201 (0603 Metric); LastUpdated: 9/2/2020 12:59:26 AM; Lifecycle Status: Active; Minimum Order: 1; Mounting Type: Surface Mount, MLCC; Operating Temperature: -55°C ~ 85°C; Package / Case: 0201 (0603 Metric); Packaging: CutTape; PartId: 621; Part Status: Active; Price: 0.10; Series: GRM; Size / Dimension: 0.024" L x 0.012" W (0.60mm x 0.30mm); Supplier 1: DigiKey; Supplier Part Number 1: 490-6141-1-ND; Temperature Coefficient: X5R; Thickness (Max): 0.013" (0.33mm); Voltage - Rated: 10V
footprint CAP 0201_0603
pins: 1, 2

## GRM033R61A332KA01D
designator C?, comment 3300pF
CAP CER 3300PF 10V X5R 0201; Part Number: GRM033R61A332KA01D; Manufacturer: Murata Electronics; Tolerance: ±10%; Value: 3300pF; Applications: General Purpose; Capacitance: 3300pF; ComponentLink1Description: Datasheet; ComponentLink1URL: https://www.murata.com/~/media/webrenewal/support/library/catalog/products/capacitor/mlcc/c02e.ashx?la=en-us; ComponentLink2Description: DigiKey Link; ComponentLink2URL: http://digikey.com/product-detail/en/murata-electronics/GRM033R61A332KA01D/490-3163-1-ND/702704; Device Package: 0201 (0603 Metric); LastUpdated: 9/2/2020 12:59:50 AM; Lifecycle Status: Active; Minimum Order: 1; Mounting Type: Surface Mount, MLCC; Operating Temperature: -55°C ~ 85°C; Package / Case: 0201 (0603 Metric); Packaging: CutTape; PartId: 343; Part Status: Active; Price: 0.10; Series: GRM; Size / Dimension: 0.024" L x 0.012" W (0.60mm x 0.30mm); Supplier 1: DigiKey; Supplier Part Number 1: 490-3163-1-ND; Temperature Coefficient: X5R; Thickness (Max): 0.013" (0.33mm); Voltage - Rated: 10V
footprint CAP 0201_0603
pins: 1, 2

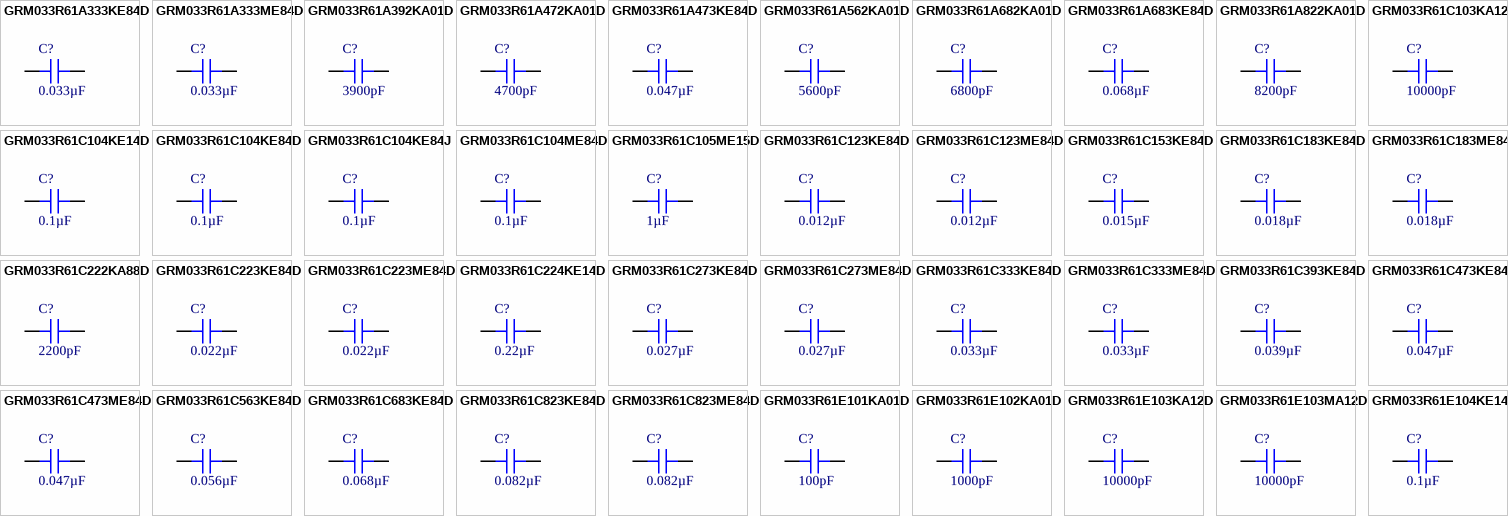
[diagram p27: symbols GRM033R61A333KE84D to GRM033R61E104KE14D]

## GRM033R61A333KE84D
designator C?, comment 0.033µF
CAP CER 0.033UF 10V X5R 0201; Part Number: GRM033R61A333KE84D; Manufacturer: Murata Electronics; Tolerance: ±10%; Value: 0.033µF; Applications: General Purpose; Capacitance: 0.033µF; ComponentLink1Description: Datasheet; ComponentLink1URL: https://search.murata.co.jp/Ceramy/image/img/A01X/G101/ENG/GRM033R61A333KE84-01.pdf; ComponentLink2Description: DigiKey Link; ComponentLink2URL: http://digikey.com/product-detail/en/murata-electronics/GRM033R61A333KE84D/490-16739-1-ND/7595647; Device Package: 0201 (0603 Metric); LastUpdated: 9/2/2020 12:59:14 AM; Lifecycle Status: Active; Minimum Order: 1; Mounting Type: Surface Mount, MLCC; Operating Temperature: -55°C ~ 85°C; Package / Case: 0201 (0603 Metric); Packaging: TapeAndReel; PartId: 758; Part Status: Active; Price: 0.01; Series: GRM; Size / Dimension: 0.024" L x 0.012" W (0.60mm x 0.30mm); Supplier 1: DigiKey; Supplier Part Number 1: 490-16739-1-ND; Temperature Coefficient: X5R; Thickness (Max): 0.013" (0.33mm); Voltage - Rated: 10V
footprint CAP 0201_0603
pins: 1, 2

## GRM033R61A333ME84D
designator C?, comment 0.033µF
CAP CER 0.033UF 10V X5R 0201; Part Number: GRM033R61A333ME84D; Manufacturer: Murata Electronics; Tolerance: ±20%; Value: 0.033µF; Applications: General Purpose; Capacitance: 0.033µF; ComponentLink1Description: Datasheet; ComponentLink1URL: https://search.murata.co.jp/Ceramy/image/img/A01X/G101/ENG/GRM033R61A333ME84-01.pdf; ComponentLink2Description: DigiKey Link; ComponentLink2URL: http://digikey.com/product-detail/en/murata-electronics/GRM033R61A333ME84D/490-16740-1-ND/7595648; Device Package: 0201 (0603 Metric); LastUpdated: 9/2/2020 12:58:21 AM; Lifecycle Status: Active; Minimum Order: 1; Mounting Type: Surface Mount, MLCC; Operating Temperature: -55°C ~ 85°C; Package / Case: 0201 (0603 Metric); Packaging: TapeAndReel; PartId: 1376; Part Status: Active; Price: 0.01; Series: GRM; Size / Dimension: 0.024" L x 0.012" W (0.60mm x 0.30mm); Supplier 1: DigiKey; Supplier Part Number 1: 490-16740-1-ND; Temperature Coefficient: X5R; Thickness (Max): 0.013" (0.33mm); Voltage - Rated: 10V
footprint CAP 0201_0603
pins: 1, 2

## GRM033R61A392KA01D
designator C?, comment 3900pF
CAP CER 3900PF 10V X5R 0201; Part Number: GRM033R61A392KA01D; Manufacturer: Murata Electronics; Tolerance: ±10%; Value: 3900pF; Applications: General Purpose; Capacitance: 3900pF; ComponentLink1Description: Datasheet; ComponentLink1URL: https://search.murata.co.jp/Ceramy/image/img/A01X/G101/ENG/GRM033R61A392KA01-01.pdf; ComponentLink2Description: DigiKey Link; ComponentLink2URL: http://digikey.com/product-detail/en/murata-electronics/GRM033R61A392KA01D/490-16741-1-ND/7595649; Device Package: 0201 (0603 Metric); LastUpdated: 9/2/2020 12:58:37 AM; Lifecycle Status: Active; Minimum Order: 1; Mounting Type: Surface Mount, MLCC; Operating Temperature: -55°C ~ 85°C; Package / Case: 0201 (0603 Metric); Packaging: CutTape; PartId: 1193; Part Status: Active; Price: 0.10; Series: GRM; Size / Dimension: 0.024" L x 0.012" W (0.60mm x 0.30mm); Supplier 1: DigiKey; Supplier Part Number 1: 490-16741-1-ND; Temperature Coefficient: X5R; Thickness (Max): 0.013" (0.33mm); Voltage - Rated: 10V
footprint CAP 0201_0603
pins: 1, 2

## GRM033R61A472KA01D
designator C?, comment 4700pF
CAP CER 4700PF 10V X5R 0201; Part Number: GRM033R61A472KA01D; Manufacturer: Murata Electronics; Tolerance: ±10%; Value: 4700pF; Applications: General Purpose; Capacitance: 4700pF; ComponentLink1Description: Datasheet; ComponentLink1URL: https://www.murata.com/~/media/webrenewal/support/library/catalog/products/capacitor/mlcc/c02e.ashx?la=en-us; ComponentLink2Description: DigiKey Link; ComponentLink2URL: http://digikey.com/product-detail/en/murata-electronics/GRM033R61A472KA01D/490-3164-1-ND/702705; Device Package: 0201 (0603 Metric); LastUpdated: 9/2/2020 12:59:26 AM; Lifecycle Status: Active; Minimum Order: 1; Mounting Type: Surface Mount, MLCC; Operating Temperature: -55°C ~ 85°C; Package / Case: 0201 (0603 Metric); Packaging: CutTape; PartId: 618; Part Status: Active; Price: 0.10; Series: GRM; Size / Dimension: 0.024" L x 0.012" W (0.60mm x 0.30mm); Supplier 1: DigiKey; Supplier Part Number 1: 490-3164-1-ND; Temperature Coefficient: X5R; Thickness (Max): 0.013" (0.33mm); Voltage - Rated: 10V
footprint CAP 0201_0603
pins: 1, 2

## GRM033R61A473KE84D
designator C?, comment 0.047µF
CAP CER 0.047UF 10V X5R 0201; Part Number: GRM033R61A473KE84D; Manufacturer: Murata Electronics; Tolerance: ±10%; Value: 0.047µF; Applications: General Purpose; Capacitance: 0.047µF; ComponentLink1Description: Datasheet; ComponentLink1URL: https://search.murata.co.jp/Ceramy/image/img/A01X/G101/ENG/GRM033R61A473KE84-01.pdf; ComponentLink2Description: DigiKey Link; ComponentLink2URL: http://digikey.com/product-detail/en/murata-electronics/GRM033R61A473KE84D/490-14570-1-ND/6606176; Device Package: 0201 (0603 Metric); LastUpdated: 9/2/2020 12:59:14 AM; Lifecycle Status: Active; Minimum Order: 1; Mounting Type: Surface Mount, MLCC; Operating Temperature: -55°C ~ 85°C; Package / Case: 0201 (0603 Metric); Packaging: TapeAndReel; PartId: 756; Part Status: Active; Price: 0.01; Series: GRM; Size / Dimension: 0.024" L x 0.012" W (0.60mm x 0.30mm); Supplier 1: DigiKey; Supplier Part Number 1: 490-14570-1-ND; Temperature Coefficient: X5R; Thickness (Max): 0.013" (0.33mm); Voltage - Rated: 10V
footprint CAP 0201_0603
pins: 1, 2

## GRM033R61A562KA01D
designator C?, comment 5600pF
CAP CER 5600PF 10V X5R 0201; Part Number: GRM033R61A562KA01D; Manufacturer: Murata Electronics; Tolerance: ±10%; Value: 5600pF; Applications: General Purpose; Capacitance: 5600pF; ComponentLink1Description: Datasheet; ComponentLink1URL: https://www.murata.com/~/media/webrenewal/support/library/catalog/products/capacitor/mlcc/c02e.ashx?la=en-us; ComponentLink2Description: DigiKey Link; ComponentLink2URL: http://digikey.com/product-detail/en/murata-electronics/GRM033R61A562KA01D/490-8157-1-ND/4380450; Device Package: 0201 (0603 Metric); LastUpdated: 9/2/2020 12:59:50 AM; Lifecycle Status: Active; Minimum Order: 1; Mounting Type: Surface Mount, MLCC; Operating Temperature: -55°C ~ 85°C; Package / Case: 0201 (0603 Metric); Packaging: CutTape; PartId: 348; Part Status: Active; Price: 0.10; Series: GRM; Size / Dimension: 0.024" L x 0.012" W (0.60mm x 0.30mm); Supplier 1: DigiKey; Supplier Part Number 1: 490-8157-1-ND; Temperature Coefficient: X5R; Thickness (Max): 0.013" (0.33mm); Voltage - Rated: 10V
footprint CAP 0201_0603
pins: 1, 2

## GRM033R61A682KA01D
designator C?, comment 6800pF
CAP CER 6800PF 10V X5R 0201; Part Number: GRM033R61A682KA01D; Manufacturer: Murata Electronics; Tolerance: ±10%; Value: 6800pF; Applications: General Purpose; Capacitance: 6800pF; ComponentLink1Description: Datasheet; ComponentLink1URL: https://www.murata.com/~/media/webrenewal/support/library/catalog/products/capacitor/mlcc/c02e.ashx?la=en-us; ComponentLink2Description: DigiKey Link; ComponentLink2URL: http://digikey.com/product-detail/en/murata-electronics/GRM033R61A682KA01D/490-3165-1-ND/702706; Device Package: 0201 (0603 Metric); LastUpdated: 9/2/2020 12:58:23 AM; Lifecycle Status: Active; Minimum Order: 1; Mounting Type: Surface Mount, MLCC; Operating Temperature: -55°C ~ 85°C; Package / Case: 0201 (0603 Metric); Packaging: CutTape; PartId: 1353; Part Status: Active; Price: 0.10; Series: GRM; Size / Dimension: 0.024" L x 0.012" W (0.60mm x 0.30mm); Supplier 1: DigiKey; Supplier Part Number 1: 490-3165-1-ND; Temperature Coefficient: X5R; Thickness (Max): 0.013" (0.33mm); Voltage - Rated: 10V
footprint CAP 0201_0603
pins: 1, 2

## GRM033R61A683KE84D
designator C?, comment 0.068µF
CAP CER 0.068UF 10V X5R 0201; Part Number: GRM033R61A683KE84D; Manufacturer: Murata Electronics; Tolerance: ±10%; Value: 0.068µF; Applications: General Purpose; Capacitance: 0.068µF; ComponentLink1Description: Datasheet; ComponentLink1URL: https://www.murata.com/~/media/webrenewal/support/library/catalog/products/capacitor/mlcc/c02e.ashx?la=en-us; ComponentLink2Description: DigiKey Link; ComponentLink2URL: http://digikey.com/product-detail/en/murata-electronics/GRM033R61A683KE84D/490-17059-1-ND/7602058; Device Package: 0201 (0603 Metric); LastUpdated: 9/2/2020 12:58:36 AM; Lifecycle Status: Active; Minimum Order: 1; Mounting Type: Surface Mount, MLCC; Operating Temperature: -55°C ~ 85°C; Package / Case: 0201 (0603 Metric); Packaging: TapeAndReel; PartId: 1204; Part Status: Active; Price: 0.01; Series: GRM; Size / Dimension: 0.024" L x 0.012" W (0.60mm x 0.30mm); Supplier 1: DigiKey; Supplier Part Number 1: 490-17059-1-ND; Temperature Coefficient: X5R; Thickness (Max): 0.013" (0.33mm); Voltage - Rated: 10V
footprint CAP 0201_0603
pins: 1, 2

## GRM033R61A822KA01D
designator C?, comment 8200pF
CAP CER 8200PF 10V X5R 0201; Part Number: GRM033R61A822KA01D; Manufacturer: Murata Electronics; Tolerance: ±10%; Value: 8200pF; Applications: General Purpose; Capacitance: 8200pF; ComponentLink1Description: Datasheet; ComponentLink1URL: https://www.murata.com/~/media/webrenewal/support/library/catalog/products/capacitor/mlcc/c02e.ashx?la=en-us; ComponentLink2Description: DigiKey Link; ComponentLink2URL: http://digikey.com/product-detail/en/murata-electronics/GRM033R61A822KA01D/490-11354-1-ND/5333194; Device Package: 0201 (0603 Metric); LastUpdated: 9/2/2020 12:59:50 AM; Lifecycle Status: Active; Minimum Order: 1; Mounting Type: Surface Mount, MLCC; Operating Temperature: -55°C ~ 85°C; Package / Case: 0201 (0603 Metric); Packaging: CutTape; PartId: 339; Part Status: Active; Price: 0.10; Series: GRM; Size / Dimension: 0.024" L x 0.012" W (0.60mm x 0.30mm); Supplier 1: DigiKey; Supplier Part Number 1: 490-11354-1-ND; Temperature Coefficient: X5R; Thickness (Max): 0.013" (0.33mm); Voltage - Rated: 10V
footprint CAP 0201_0603
pins: 1, 2

## GRM033R61C103KA12D
designator C?, comment 10000pF
CAP CER 10000PF 16V X5R 0201; Part Number: GRM033R61C103KA12D; Manufacturer: Murata Electronics; Tolerance: ±10%; Value: 10000pF; Applications: General Purpose; Capacitance: 10000pF; ComponentLink1Description: Datasheet; ComponentLink1URL: https://search.murata.co.jp/Ceramy/image/img/A01X/G101/ENG/GRM033R61C103KA12-01.pdf; ComponentLink2Description: DigiKey Link; ComponentLink2URL: http://digikey.com/product-detail/en/murata-electronics/GRM033R61C103KA12D/490-7223-1-ND/4213381; Device Package: 0201 (0603 Metric); LastUpdated: 9/2/2020 12:58:55 AM; Lifecycle Status: Active; Minimum Order: 1; Mounting Type: Surface Mount, MLCC; Operating Temperature: -55°C ~ 85°C; Package / Case: 0201 (0603 Metric); Packaging: CutTape; PartId: 980; Part Status: Active; Price: 0.10; Series: GRM; Size / Dimension: 0.024" L x 0.012" W (0.60mm x 0.30mm); Supplier 1: DigiKey; Supplier Part Number 1: 490-7223-1-ND; Temperature Coefficient: X5R; Thickness (Max): 0.013" (0.33mm); Voltage - Rated: 16V
footprint CAP 0201_0603
pins: 1, 2